# Altium footprint library JC0603C.PcbLib: 1 footprints
Each footprint in its own frame and in the unit in brackets; x right, y up, seen from the top. Pads: shape width x height; smd on the part's side, far side on the other; paste and mask are expansions set on the pad; w line width, h text height; cw(c..) or ccw(c..) is an arc to the next point about the centre after c.
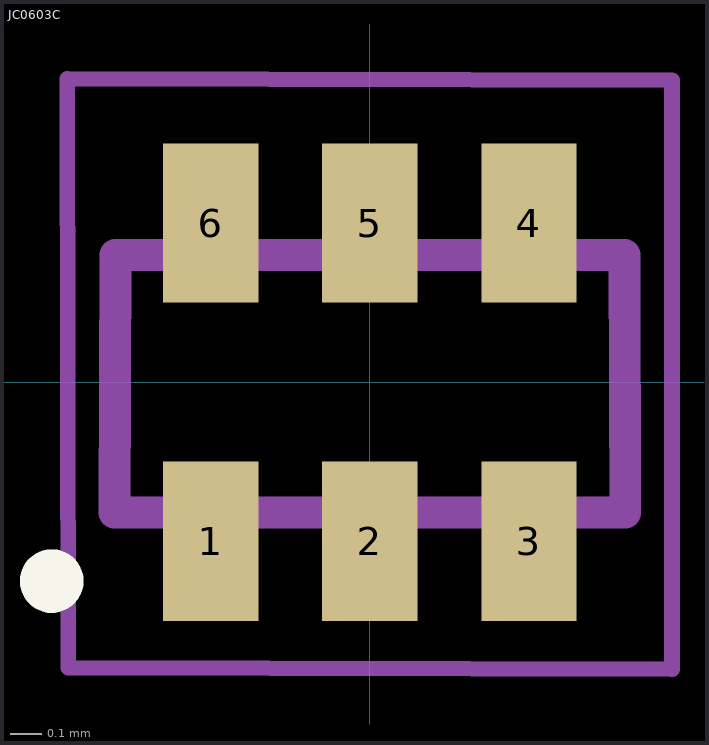
[diagram p0: the footprint, top view; thin cyan lines are the x and y axes]

## JC0603C [mm]
height 0.6
pads (6):
  rect 0.3x0.5 smd mask+0.05: 1(-0.5,-0.5) 2(0,-0.5) 3(0.5,-0.5) 4(0.5,0.5) 5(0,0.5) 6(-0.5,0.5)
Top Overlay:
  circle w0.1: c-1,-0.625 r0.05
Top Courtyard:
  lines w0.1: -0.802,-0.41 -0.8,0.4 0.8,0.4 0.802,-0.41 -0.802,-0.41
Mechanical 15:
  lines w0.05: -0.951,0.954 -0.948,-0.898 0.95,-0.902 0.95,0.949 -0.951,0.954
3D body: height 0.6, standoff 0, extent -0.8,-0.4 0.8,0.4
3D body: height 0.61, standoff 0, extent -0.1,0.3 0.1,0.425
3D body: height 0.61, standoff 0, extent 0.4,-0.425 0.6,-0.3
3D body: height 0.61, standoff 0, extent -0.6,0.3 -0.4,0.425
3D body: height 0.61, standoff 0, extent -0.1,-0.425 0.1,-0.3
3D body: height 0.61, standoff 0, extent 0.4,0.3 0.6,0.425
3D body: height 0.61, standoff 0, extent -0.1,0.3 0.1,0.425
3D body: height 0.61, standoff 0, extent -0.6,0.3 -0.4,0.425
3D body: height 0.61, standoff 0, extent -0.6,-0.425 -0.4,-0.3